# EAGLE library part LM4250 (library lm4250)
The LM4250 and LM4250C are extremely versatile pro- grammable monolithic operational amplifiers.
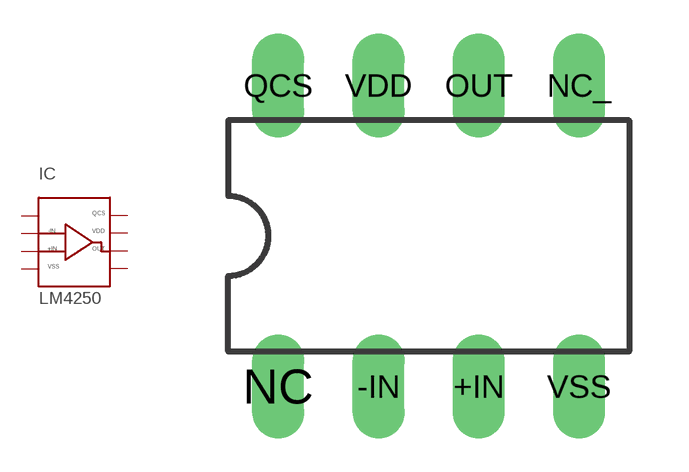
[diagram p0: symbol with the pads of DIL08; footprint DIL08]

Designator prefix IC

## LM4250  [DIL08]
+IN  +IN  in
-IN  -IN  in
NC  NC  nc
NC_  NC_  nc
OUT  OUT  out
QCS  QCS  in
VDD  VDD  pwr
VSS  VSS  pwr

## Footprint DIL08 (pad centres in mm)
Dual In Line Package
drill 0.813 long: +IN 1.27,-3.81; -IN -1.27,-3.81; NC -3.81,-3.81; NC_ 3.81,3.81; OUT 1.27,3.81; QCS -3.81,3.81; VDD -1.27,3.81; VSS 3.81,-3.81